# EAGLE library part L6924D (library CougsInSpace-IC-Power)
Li-Ion Battey Charger L6924D <https://github.com/CougsInSpace/Resources/blob/master/SupplierDocuments/ST/L6924D_LithionIonBatteryCharger.pdf>
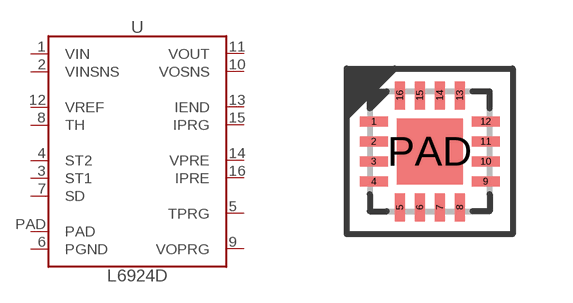
[diagram p2: symbol with the pads of QFN-16-3030; footprint QFN-16-3030]

Designator prefix U

## L6924D (SKU: 60-0003; VALUE: L6924D)  [QFN-16-3030]
1  VIN  in
2  VINSNS  in
3  ST1  oc
4  ST2  oc
5  TPRG  pas
6  PGND  pwr
7  SD  in
8  TH  in
9  VOPRG  pas
10  VOSNS  in
11  VOUT  out
12  VREF  out
13  IEND  pas
14  VPRE  pas
15  IPRG  pas
16  IPRE  pas
PAD  PAD  pas

## Footprint QFN-16-3030 (pad centres in mm)
Quad Flat No-Leads (QFN) - 16 pins - 3.0 x 3.0 mm
smd 0.7 x 0.25: 1 -1.4,0.75; 2 -1.4,0.25; 3 -1.4,-0.25; 4 -1.4,-0.75; 9 1.4,-0.75; 10 1.4,-0.25; 11 1.4,0.25; 12 1.4,0.75
smd 0.25 x 0.7: 5 -0.75,-1.4; 6 -0.25,-1.4; 7 0.25,-1.4; 8 0.75,-1.4; 13 0.75,1.4; 14 0.25,1.4; 15 -0.25,1.4; 16 -0.75,1.4
smd 1.65 x 1.65: PAD 0,0